# Altium schematic symbol library 2221-LIB.SchLib: 6 symbols
Pins are listed as number, name and electrical type; pins without a type are passive.

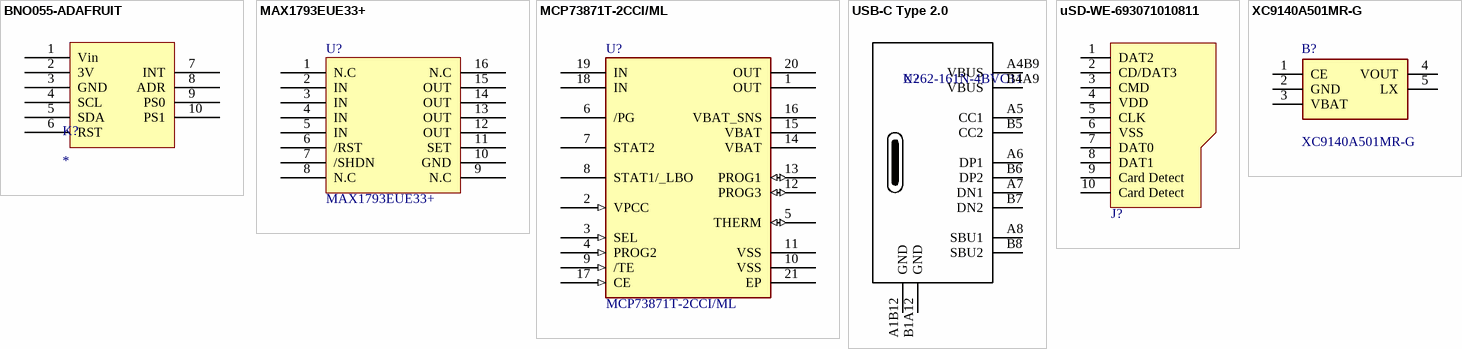
[diagram p0: symbols BNO055-ADAFRUIT to XC9140A501MR-G]

## BNO055-ADAFRUIT
designator K?
pins: 1 Vin, 2 3V, 3 GND, 4 SCL, 5 SDA, 6 RST, 7 INT, 8 ADR, 9 PS0, 10 PS1

## MAX1793EUE33+
designator U?
footprint SOP65P637X110-17N
footprint TSOP65P640X110_HS-17N (TSOP, 16-Leads, Body 5.00x4.40mm, Pitch 0.65mm, Thermal Pad 3.10x3.10mm, IPC Medium Density)
footprint TSOP65P640X110_HS-17N (TSOP, 16-Leads, Body 5.00x4.40mm, Pitch 0.65mm, Thermal Pad 3.10x3.10mm, IPC Medium Density)
pins: 1 N.C "N-C", 2 IN, 3 IN, 4 IN, 5 IN, 6 /RST, 7 /SHDN, 8 N.C, 9 N.C, 10 GND, 11 SET, 12 OUT, 13 OUT, 14 OUT, 15 OUT, 16 N.C

## MCP73871T-2CCI/ML
designator U?
Charger IC Lithium Ion/Polymer 20-QFN _4x4_; MF: Microchip; SnapEDA_Link: https://www.snapeda.com/parts/MCP73871T-2CCI/ML/Microchip/view-part/1049920/?ref=snap; Value: *; Digi-Key_Part_Number: MCP73871T-2CCI/MLCT-ND; MP: MCP73871T-2CCI/ML; Digi-Key_Purchase_URL: https://www.digikey.com/product-detail/en/microchip-technology/MCP73871T-2CCI-ML/MCP73871T-2CCI-MLCT-ND/7065594?utm_source=snapeda&utm_medium=aggregator&utm_campaign=symbol; Package: QFN-20 Microchip
footprint QFN50P400X400X100-21N
footprint Microchip_C04-126_IPC_B
pins: 1 OUT, 2 VPCC (in), 3 SEL (in), 4 PROG2 (in), 5 THERM (io), 6 /PG, 7 STAT2, 8 STAT1/_LBO, 9 /TE (in), 10 VSS, 11 VSS, 12 PROG3 (io), 13 PROG1 (io), 14 VBAT, 15 VBAT, 16 VBAT_SNS, 17 CE (in), 18 IN, 19 IN, 20 OUT, 21 EP

## USB-C Type 2.0
designator X?, comment U262-161N-4BVC11
U262-161N-4BVC11 / XKB Connectivity; ComponentLink1Description: LCSC  C319148; ComponentLink1URL: https://lcsc.com/product-detail/USB-Connectors_XKB-Connectivity-U262-161N-4BVC11_C319148.html; Supplier 1: LCSC; Supplier Part Number 1: C319148
pins: A1B12 GND, A4B9 VBUS, A5 CC1, A6 DP1, A7 DN1, A8 SBU1, B1A12 GND, B4A9 VBUS, B5 CC2, B6 DP2, B7 DN2, B8 SBU2

## uSD-WE-693071010811
designator J?, comment 693071010811  (value not drawn)
WR-CRD Micro SD Card Connector Push & Push; Manufacturer: Wurth Elektronik; Contact Resistance: 100mOhm; Gender: Socket; Rated Current: 0.5A; Working Voltage: 100VAC; Withstanding Voltage: 500VAC; Manufacturer Part Number: 693071010811; Category: Input/Output Connectors; Match Code: WR-CRD; ComponentLink1Description: Website Link; ComponentLink1URL: https://www.we-online.com/redexpert/article/693071010811?ad; ComponentLink2Description: Datasheet Link; ComponentLink2URL: https://www.we-online.com/redexpert/spec/693071010811?ad; Mount: Surface Mount; Operating Temperature Max: 85°C; Operating Temperature Min: -25°C; Packaging: Tape and Reel; Number of Pins: 8; Type: Push & Push
footprint 693071010811
pins: 1 DAT2, 2 CD/DAT3, 3 CMD, 4 VDD, 5 CLK, 6 VSS, 7 DAT0, 8 DAT1, 9 Card Detect, 10 Card Detect

## XC9140A501MR-G
designator B?
Switching Voltage Regulators PFM Control Snchrns StepUpDCDC Converter; Manufacturer_Name: Torex; Geometry.Height: 1.3mm; Mouser Part Number: 865-XC9140A501MR-G; Mouser Price/Stock: https://www.mouser.co.uk/ProductDetail/Torex-Semiconductor/XC9140A501MR-G?qs=AsjdqWjXhJ8xw9tvUM0FMA%3D%3D; Manufacturer_Part_Number: XC9140A501MR-G; Datasheet Link: *
footprint SOT95P280X130-5N
pins: 1 CE, 2 GND, 3 VBAT, 4 VOUT, 5 LX